# Altium schematic symbol library C2012X7R2A104K125AE.SchLib: 1 symbol
Pins are listed as number, name and electrical type; pins without a type are passive.

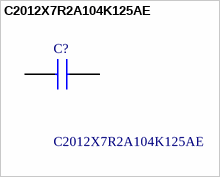
[diagram p0: symbol C2012X7R2A104K125AE]

## C2012X7R2A104K125AE
designator C?
Multilayer Ceramic Capacitors MLCC - SMD/SMT 2012 0.1uF 100volts X7R 10% Soft Term; Manufacturer_Name: TDK; Geometry.Height: 1.45mm; Mouser Part Number: 810-C2012X7R2A104KAE; Mouser Price/Stock: https://www.mouser.co.uk/ProductDetail/TDK/C2012X7R2A104K125AE?qs=n%2FVzw7c4a0kn2AI72VWcwA%3D%3D; Manufacturer_Part_Number: C2012X7R2A104K125AE; Datasheet Link: https://product.tdk.com/info/en/catalog/datasheets/mlcc_commercial_midvoltage_en.pdf
footprint CAPC2012X145N
pins: 1, 2